# EAGLE library part CONNECTOR-6-FTDI (library APU_ENGR480_UPS_EAGLE_Library)
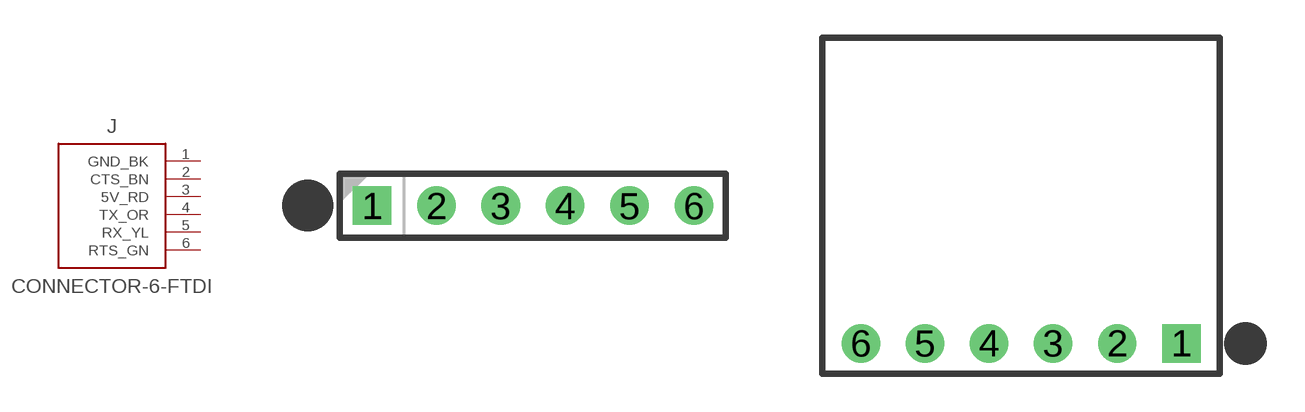
[diagram p9: symbol with the pads of ESQ-106-XX-X-S; footprints ESQ-106-XX-X-S, CONNECTOR_6_01.00_RA_BOTTOM]

Designator prefix J

## CONNECTOR-6-FTDI  [ESQ-106-XX-X-S]
1  GND_BK
2  CTS_BN
3  5V_RD
4  TX_OR
5  RX_YL
6  RTS_GN

## CONNECTOR-6-FTDI-BOTTOM  [CONNECTOR_6_01.00_RA_BOTTOM]
Pads as for ESQ-106-XX-X-S

## Footprint ESQ-106-XX-X-S (pad centres in mm)
drill 1.016 pad 1.524 square: 1 0,0
drill 1.016 pad 1.524: 2 2.54,0; 3 5.08,0; 4 7.62,0; 5 10.16,0; 6 12.7,0

## Footprint CONNECTOR_6_01.00_RA_BOTTOM (pad centres in mm)
drill 1.016 pad 1.524 square: 1 0,0
drill 1.016 pad 1.524: 2 -2.54,0; 3 -5.08,0; 4 -7.62,0; 5 -10.16,0; 6 -12.7,0